# Altium footprint library Castellated_Hole_1mm.PcbLib: 1 footprints
Each footprint in its own frame and in the unit in brackets; x right, y up, seen from the top. Pads: shape width x height; smd on the part's side, far side on the other; paste and mask are expansions set on the pad; w line width, h text height; cw(c..) or ccw(c..) is an arc to the next point about the centre after c.
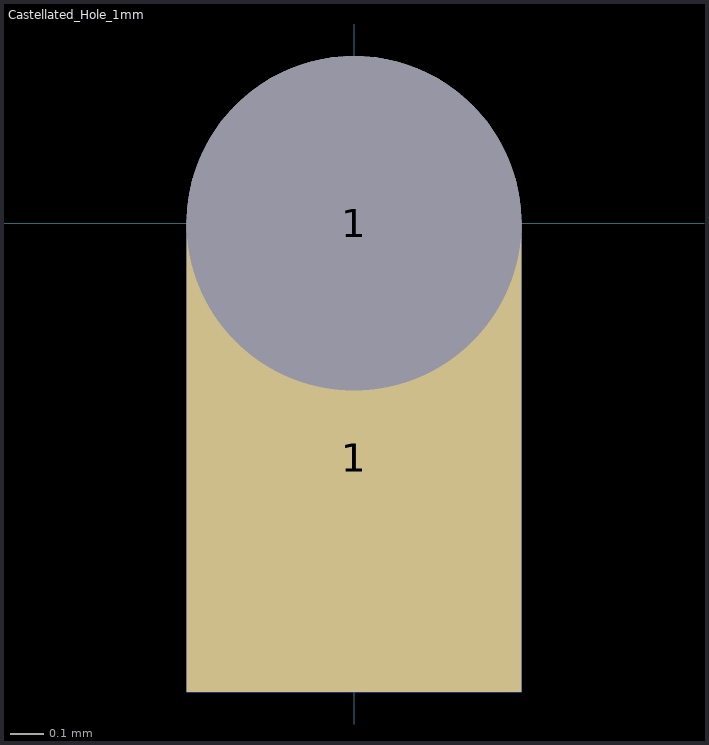
[diagram p0: the footprint, top view; thin cyan lines are the x and y axes]

## Castellated_Hole_1mm [mm]
pads (3):
  rect 1x1.4 smd mask+0: 1(0,-0.7)
  rect 1x1.4 smd far side mask+0: 1(0,-0.7)
  round 1 hole 1 mask+0: 1(0,0)